# EAGLE library part M09-SCREW (library trainlib)
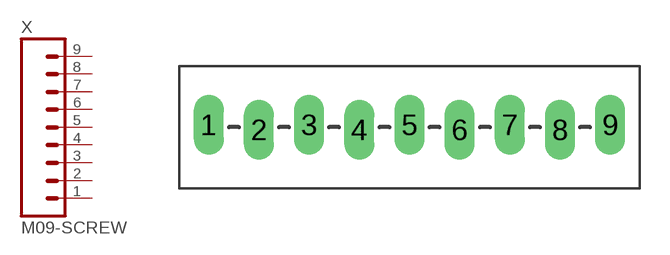
[diagram p28: symbol with the pads of 1X09_TERMINAL; footprint 1X09_TERMINAL]

Designator prefix X

## M09-SCREW  [1X09_TERMINAL]
1  1  pas
2  2  pas
3  3  pas
4  4  pas
5  5  pas
6  6  pas
7  7  pas
8  8  pas
9  9  pas

## Footprint 1X09_TERMINAL (pad centres in mm)
drill 1.016 long: 1 0,0.127; 2 2.54,-0.127; 3 5.08,0.127; 4 7.62,-0.127; 5 10.16,0.127; 6 12.7,-0.127; 7 15.24,0.127; 8 17.78,-0.127; 9 20.32,0.127